# Altium integrated library Atmel Microcontroller 8-Bit tinyAVR.IntLib: 200 symbols (part 1 of 7)
Pins are listed as number, name and electrical type; pins without a type are passive.

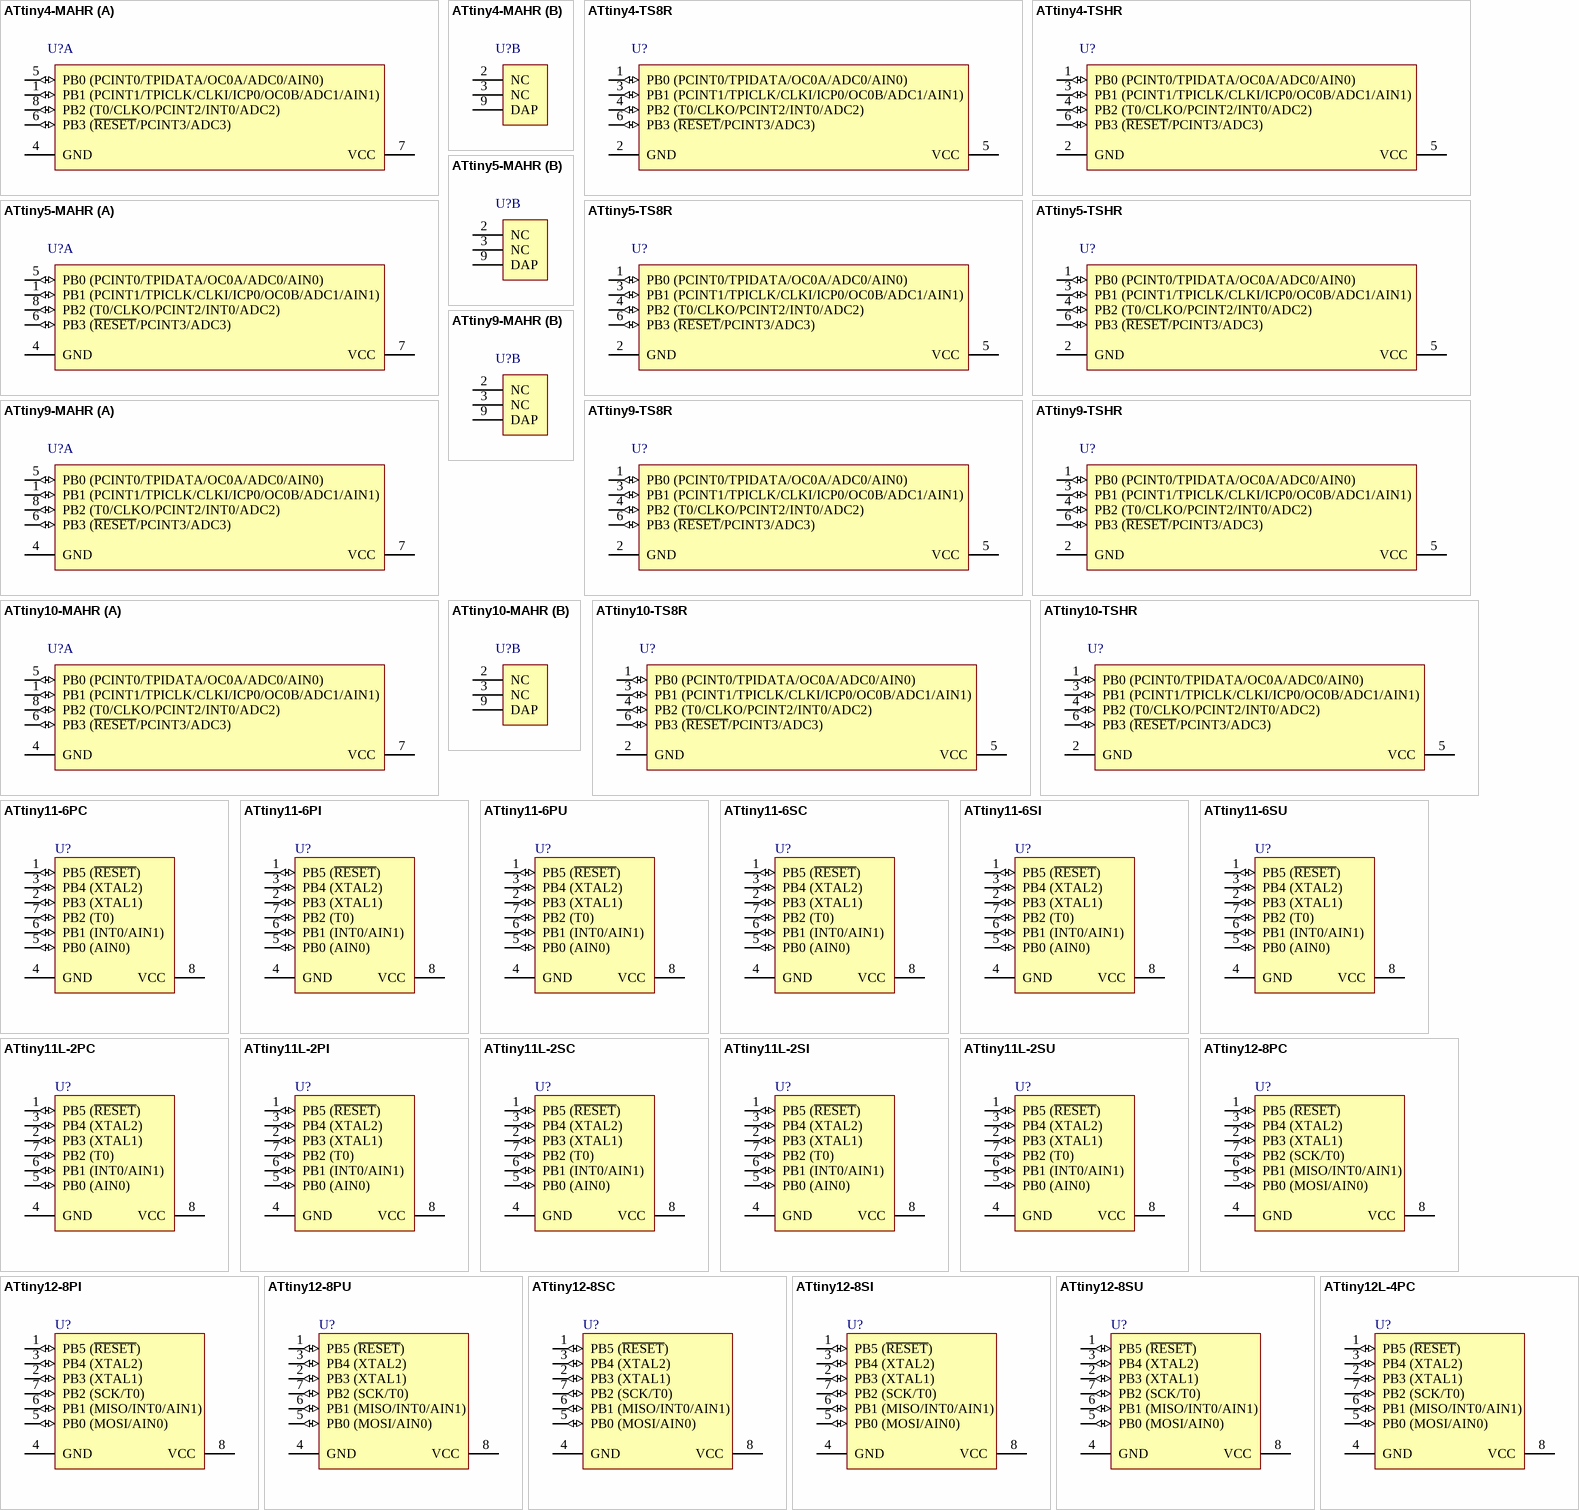
[diagram p0: symbols ATtiny4-MAHR to ATtiny12L-4PC]

## ATtiny4-MAHR
designator U?
8-bit AVR Microcontroller, 1.8-5.5V, 512 Bytes Flash, 32 Bytes SRAM, 8-pin UDFN, Industrial (-40°C to 85°C), Pb-Free, Reel; Published: 1-Apr-2010; DatasheetVersion: revD, Feb-2010; PackageVersion: revA, Dec-2009; PackageReference: 8MA4; Publisher: Altium Limited; PackageDescription: 8-Pad Plastic Dual Flat No Lead Package (UDFN/USON) Sawn,  2x2x0.6mm Body, 0.5mm Pitch, 0.9x1.5mm Exposed Pad; Supplier 1: Digi-Key; Supplier Part Number 1: ATTINY4-MAHR-ND; Supplier 2: Mouser; Supplier Part Number 2: 556-ATTINY4-MAHR; Code_JEDEC: MO-236/MO-252; ComponentLink1Description: Manufacturer Link; ComponentLink1URL: http://www.atmel.com/products/avr/default.asp?; ComponentLink2Description: ATtiny4/5/9/10 Datasheet; ComponentLink2URL: http://www.atmel.com/dyn/resources/prod_documents/doc8127.pdf; ComponentLink3Description: ATtiny4/5/9/10 Summary; ComponentLink3URL: http://www.atmel.com/dyn/resources/prod_documents/8127S.pdf; ComponentLink4Description: Atmel.com Home; ComponentLink4URL: http://www.atmel.com
footprint 8MA4 (SON, 8-Leads, Body 2x2mm, Pitch 0.5mm)
part A pins: 1 PB1 (PCINT1/TPICLK/CLKI/ICP0/OC0B/ADC1/AIN1) (io), 4 GND (power), 5 PB0 (PCINT0/TPIDATA/OC0A/ADC0/AIN0) (io), 6 PB3 (~{RESET}/PCINT3/ADC3) (io), 7 VCC (power), 8 PB2 (T0/CLKO/PCINT2/INT0/ADC2) (io)
part B pins: 2 NC, 3 NC, 9 DAP (power)

## ATtiny4-TS8R
designator U?
8-bit AVR Microcontroller, 1.8-5.5V, 512 Bytes Flash, 32 Bytes SRAM, 6-pin SOT-23, Industrial (-40°C to 125°C), Pb-Free, Reel; Published: 1-Apr-2010; DatasheetVersion: revD, Feb-2010; PackageVersion: revA, Jun-2008; PackageReference: 6ST1; Publisher: Altium Limited; PackageDescription: 6-Lead, 2.90 x 1.60 mm Plastic Small Outline Package (SOT23); Supplier 1: Digi-Key; Supplier Part Number 1: ATTINY4-TS8R-ND; Supplier 2: Mouser; Supplier Part Number 2: 556-ATTINY4-TS8R; Code_JEDEC: MO-178-AB; Code_IPC: SOT26A-6; ComponentLink1Description: Manufacturer Link; ComponentLink1URL: http://www.atmel.com/products/avr/default.asp?; ComponentLink2Description: ATtiny4/5/9/10 Datasheet; ComponentLink2URL: http://www.atmel.com/dyn/resources/prod_documents/doc8127.pdf; ComponentLink3Description: ATtiny4/5/9/10 Summary; ComponentLink3URL: http://www.atmel.com/dyn/resources/prod_documents/8127S.pdf; ComponentLink4Description: ATtiny4/5/9/10 Appendix; ComponentLink4URL: http://www.atmel.com/dyn/resources/prod_documents/doc8127_125.pdf; ComponentLink5Description: Atmel.com Home; ComponentLink5URL: http://www.atmel.com
footprint 6ST1_N (SOT23, 6-Leads, Body 2.9x1.6mm, Pitch 0.95mm, Lead Span 2.7mm, IPC Medium Density)
footprint 6ST1_L (SOT23, 6-Leads, Body 2.9x1.6mm, Pitch 0.95mm, Lead Span 2.7mm, IPC High Density)
footprint 6ST1_M (SOT23, 6-Leads, Body 2.9x1.6mm, Pitch 0.95mm, Lead Span 2.7mm, IPC Low Density)
pins: 1 PB0 (PCINT0/TPIDATA/OC0A/ADC0/AIN0) (io), 2 GND (power), 3 PB1 (PCINT1/TPICLK/CLKI/ICP0/OC0B/ADC1/AIN1) (io), 4 PB2 (T0/CLKO/PCINT2/INT0/ADC2) (io), 5 VCC (power), 6 PB3 (~{RESET}/PCINT3/ADC3) (io)

## ATtiny4-TSHR
designator U?
8-bit AVR Microcontroller, 1.8-5.5V, 512 Bytes Flash, 32 Bytes SRAM, 6-pin SOT-23, Industrial (-40°C to 85°C), Pb-Free, Reel; Published: 1-Apr-2010; DatasheetVersion: revD, Feb-2010; PackageVersion: revA, Jun-2008; PackageReference: 6ST1; Publisher: Altium Limited; PackageDescription: 6-Lead, 2.90 x 1.60 mm Plastic Small Outline Package (SOT23); Supplier 1: Digi-Key; Supplier Part Number 1: ATTINY4-TSHR-ND; Supplier 2: Mouser; Supplier Part Number 2: 556-ATTINY4-TSHR; Code_JEDEC: MO-178-AB; Code_IPC: SOT26A-6; ComponentLink1Description: Manufacturer Link; ComponentLink1URL: http://www.atmel.com/products/avr/default.asp?; ComponentLink2Description: ATtiny4/5/9/10 Datasheet; ComponentLink2URL: http://www.atmel.com/dyn/resources/prod_documents/doc8127.pdf; ComponentLink3Description: ATtiny4/5/9/10 Summary; ComponentLink3URL: http://www.atmel.com/dyn/resources/prod_documents/8127S.pdf; ComponentLink4Description: ATtiny4/5/9/10 Appendix; ComponentLink4URL: http://www.atmel.com/dyn/resources/prod_documents/doc8127_125.pdf; ComponentLink5Description: Atmel.com Home; ComponentLink5URL: http://www.atmel.com
footprint 6ST1_N (SOT23, 6-Leads, Body 2.9x1.6mm, Pitch 0.95mm, Lead Span 2.7mm, IPC Medium Density)
footprint 6ST1_L (SOT23, 6-Leads, Body 2.9x1.6mm, Pitch 0.95mm, Lead Span 2.7mm, IPC High Density)
footprint 6ST1_M (SOT23, 6-Leads, Body 2.9x1.6mm, Pitch 0.95mm, Lead Span 2.7mm, IPC Low Density)
pins: 1 PB0 (PCINT0/TPIDATA/OC0A/ADC0/AIN0) (io), 2 GND (power), 3 PB1 (PCINT1/TPICLK/CLKI/ICP0/OC0B/ADC1/AIN1) (io), 4 PB2 (T0/CLKO/PCINT2/INT0/ADC2) (io), 5 VCC (power), 6 PB3 (~{RESET}/PCINT3/ADC3) (io)

## ATtiny5-MAHR
designator U?
8-bit AVR Microcontroller, 1.8-5.5V, 512 Bytes Flash, 32 Bytes SRAM, ADC8-pin UDFN, Industrial (-40°C to 85°C), Pb-Free, Reel; Published: 1-Apr-2010; DatasheetVersion: revD, Feb-2010; PackageVersion: revA, Dec-2009; PackageReference: 8MA4; Publisher: Altium Limited; PackageDescription: 8-Pad Plastic Dual Flat No Lead Package (UDFN/USON) Sawn,  2x2x0.6mm Body, 0.5mm Pitch, 0.9x1.5mm Exposed Pad; Supplier 1: Digi-Key; Supplier Part Number 1: ATTINY5-MAHR-ND; Supplier 2: Mouser; Supplier Part Number 2: 556-ATTINY5-MAHR; Code_JEDEC: MO-236/MO-252; ComponentLink1Description: Manufacturer Link; ComponentLink1URL: http://www.atmel.com/products/avr/default.asp?; ComponentLink2Description: ATtiny4/5/9/10 Datasheet; ComponentLink2URL: http://www.atmel.com/dyn/resources/prod_documents/doc8127.pdf; ComponentLink3Description: ATtiny4/5/9/10 Summary; ComponentLink3URL: http://www.atmel.com/dyn/resources/prod_documents/8127S.pdf; ComponentLink4Description: Atmel.com Home; ComponentLink4URL: http://www.atmel.com
footprint 8MA4 (SON, 8-Leads, Body 2x2mm, Pitch 0.5mm)
part A pins: 1 PB1 (PCINT1/TPICLK/CLKI/ICP0/OC0B/ADC1/AIN1) (io), 4 GND (power), 5 PB0 (PCINT0/TPIDATA/OC0A/ADC0/AIN0) (io), 6 PB3 (~{RESET}/PCINT3/ADC3) (io), 7 VCC (power), 8 PB2 (T0/CLKO/PCINT2/INT0/ADC2) (io)
part B pins: 2 NC, 3 NC, 9 DAP (power)

## ATtiny5-TS8R
designator U?
8-bit AVR Microcontroller, 1.8-5.5V, 512 Bytes Flash, 32 Bytes SRAM, ADC, 6-pin SOT-23, Industrial (-40°C to 125°C), Pb-Free, Reel; Published: 1-Apr-2010; DatasheetVersion: revD, Feb-2010; PackageVersion: revA, Jun-2008; PackageReference: 6ST1; Publisher: Altium Limited; PackageDescription: 6-Lead, 2.90 x 1.60 mm Plastic Small Outline Package (SOT23); Supplier 1: Digi-Key; Supplier Part Number 1: ATTINY5-TS8R-ND; Supplier 2: Mouser; Supplier Part Number 2: 556-ATTINY5-TS8R; Code_JEDEC: MO-178-AB; Code_IPC: SOT26A-6; ComponentLink1Description: Manufacturer Link; ComponentLink1URL: http://www.atmel.com/products/avr/default.asp?; ComponentLink2Description: ATtiny4/5/9/10 Datasheet; ComponentLink2URL: http://www.atmel.com/dyn/resources/prod_documents/doc8127.pdf; ComponentLink3Description: ATtiny4/5/9/10 Summary; ComponentLink3URL: http://www.atmel.com/dyn/resources/prod_documents/8127S.pdf; ComponentLink4Description: ATtiny4/5/9/10 Appendix; ComponentLink4URL: http://www.atmel.com/dyn/resources/prod_documents/doc8127_125.pdf; ComponentLink5Description: Atmel.com Home; ComponentLink5URL: http://www.atmel.com
footprint 6ST1_N (SOT23, 6-Leads, Body 2.9x1.6mm, Pitch 0.95mm, Lead Span 2.7mm, IPC Medium Density)
footprint 6ST1_L (SOT23, 6-Leads, Body 2.9x1.6mm, Pitch 0.95mm, Lead Span 2.7mm, IPC High Density)
footprint 6ST1_M (SOT23, 6-Leads, Body 2.9x1.6mm, Pitch 0.95mm, Lead Span 2.7mm, IPC Low Density)
pins: 1 PB0 (PCINT0/TPIDATA/OC0A/ADC0/AIN0) (io), 2 GND (power), 3 PB1 (PCINT1/TPICLK/CLKI/ICP0/OC0B/ADC1/AIN1) (io), 4 PB2 (T0/CLKO/PCINT2/INT0/ADC2) (io), 5 VCC (power), 6 PB3 (~{RESET}/PCINT3/ADC3) (io)

## ATtiny5-TSHR
designator U?
8-bit AVR Microcontroller, 1.8-5.5V, 512 Bytes Flash, 32 Bytes SRAM, ADC6-pin SOT-23, Industrial (-40°C to 85°C), Pb-Free, Reel; Published: 1-Apr-2010; DatasheetVersion: revD, Feb-2010; PackageVersion: revA, Jun-2008; PackageReference: 6ST1; Publisher: Altium Limited; PackageDescription: 6-Lead, 2.90 x 1.60 mm Plastic Small Outline Package (SOT23); Supplier 1: Digi-Key; Supplier Part Number 1: ATTINY5-TSHR-ND; Supplier 2: Mouser; Supplier Part Number 2: 556-ATTINY5-TSHR; Code_JEDEC: MO-178-AB; Code_IPC: SOT26A-6; ComponentLink1Description: Manufacturer Link; ComponentLink1URL: http://www.atmel.com/products/avr/default.asp?; ComponentLink2Description: ATtiny4/5/9/10 Datasheet; ComponentLink2URL: http://www.atmel.com/dyn/resources/prod_documents/doc8127.pdf; ComponentLink3Description: ATtiny4/5/9/10 Summary; ComponentLink3URL: http://www.atmel.com/dyn/resources/prod_documents/8127S.pdf; ComponentLink4Description: Atmel.com Home; ComponentLink4URL: http://www.atmel.com
footprint 6ST1_N (SOT23, 6-Leads, Body 2.9x1.6mm, Pitch 0.95mm, Lead Span 2.7mm, IPC Medium Density)
footprint 6ST1_L (SOT23, 6-Leads, Body 2.9x1.6mm, Pitch 0.95mm, Lead Span 2.7mm, IPC High Density)
footprint 6ST1_M (SOT23, 6-Leads, Body 2.9x1.6mm, Pitch 0.95mm, Lead Span 2.7mm, IPC Low Density)
pins: 1 PB0 (PCINT0/TPIDATA/OC0A/ADC0/AIN0) (io), 2 GND (power), 3 PB1 (PCINT1/TPICLK/CLKI/ICP0/OC0B/ADC1/AIN1) (io), 4 PB2 (T0/CLKO/PCINT2/INT0/ADC2) (io), 5 VCC (power), 6 PB3 (~{RESET}/PCINT3/ADC3) (io)

## ATtiny9-MAHR
designator U?
8-bit AVR Microcontroller, 1.8-5.5V, 1KB Flash, 32 Bytes SRAM, 8-pin UDFN, Industrial (-40°C to 85°C), Pb-Free, Reel; Published: 1-Apr-2010; DatasheetVersion: revD, Feb-2010; PackageVersion: revA, Dec-2009; PackageReference: 8MA4; Publisher: Altium Limited; PackageDescription: 8-Pad Plastic Dual Flat No Lead Package (UDFN/USON) Sawn,  2x2x0.6mm Body, 0.5mm Pitch, 0.9x1.5mm Exposed Pad; Supplier 1: Digi-Key; Supplier Part Number 1: ATTINY9-MAHR-ND; Supplier 2: Mouser; Supplier Part Number 2: 556-ATTINY9-MAHR; Code_JEDEC: MO-236/MO-252; ComponentLink1Description: Manufacturer Link; ComponentLink1URL: http://www.atmel.com/products/avr/default.asp?; ComponentLink2Description: ATtiny4/5/9/10 Datasheet; ComponentLink2URL: http://www.atmel.com/dyn/resources/prod_documents/doc8127.pdf; ComponentLink3Description: ATtiny4/5/9/10 Summary; ComponentLink3URL: http://www.atmel.com/dyn/resources/prod_documents/8127S.pdf; ComponentLink4Description: Atmel.com Home; ComponentLink4URL: http://www.atmel.com
footprint 8MA4 (SON, 8-Leads, Body 2x2mm, Pitch 0.5mm)
part A pins: 1 PB1 (PCINT1/TPICLK/CLKI/ICP0/OC0B/ADC1/AIN1) (io), 4 GND (power), 5 PB0 (PCINT0/TPIDATA/OC0A/ADC0/AIN0) (io), 6 PB3 (~{RESET}/PCINT3/ADC3) (io), 7 VCC (power), 8 PB2 (T0/CLKO/PCINT2/INT0/ADC2) (io)
part B pins: 2 NC, 3 NC, 9 DAP (power)

## ATtiny9-TS8R
designator U?
8-bit AVR Microcontroller, 1.8-5.5V, 1KB Flash, 32 Bytes SRAM, 6-pin SOT-23, Industrial (-40°C to 125°C), Pb-Free, Reel; Published: 1-Apr-2010; DatasheetVersion: revD, Feb-2010; PackageVersion: revA, Jun-2008; PackageReference: 6ST1; Publisher: Altium Limited; PackageDescription: 6-Lead, 2.90 x 1.60 mm Plastic Small Outline Package (SOT23); Supplier 1: Digi-Key; Supplier Part Number 1: ATTINY9-TS8R-ND; Supplier 2: Mouser; Supplier Part Number 2: 556-ATTINY9-TS8R; Code_JEDEC: MO-178-AB; Code_IPC: SOT26A-6; ComponentLink1Description: Manufacturer Link; ComponentLink1URL: http://www.atmel.com/products/avr/default.asp?; ComponentLink2Description: ATtiny4/5/9/10 Datasheet; ComponentLink2URL: http://www.atmel.com/dyn/resources/prod_documents/doc8127.pdf; ComponentLink3Description: ATtiny4/5/9/10 Summary; ComponentLink3URL: http://www.atmel.com/dyn/resources/prod_documents/8127S.pdf; ComponentLink4Description: ATtiny4/5/9/10 Appendix; ComponentLink4URL: http://www.atmel.com/dyn/resources/prod_documents/doc8127_125.pdf; ComponentLink5Description: Atmel.com Home; ComponentLink5URL: http://www.atmel.com
footprint 6ST1_N (SOT23, 6-Leads, Body 2.9x1.6mm, Pitch 0.95mm, Lead Span 2.7mm, IPC Medium Density)
footprint 6ST1_L (SOT23, 6-Leads, Body 2.9x1.6mm, Pitch 0.95mm, Lead Span 2.7mm, IPC High Density)
footprint 6ST1_M (SOT23, 6-Leads, Body 2.9x1.6mm, Pitch 0.95mm, Lead Span 2.7mm, IPC Low Density)
pins: 1 PB0 (PCINT0/TPIDATA/OC0A/ADC0/AIN0) (io), 2 GND (power), 3 PB1 (PCINT1/TPICLK/CLKI/ICP0/OC0B/ADC1/AIN1) (io), 4 PB2 (T0/CLKO/PCINT2/INT0/ADC2) (io), 5 VCC (power), 6 PB3 (~{RESET}/PCINT3/ADC3) (io)

## ATtiny9-TSHR
designator U?
8-bit AVR Microcontroller, 1.8-5.5V, 1KB Flash, 32 Bytes SRAM, 6-pin SOT-23, Industrial (-40°C to 85°C), Pb-Free, Reel; Published: 1-Apr-2010; DatasheetVersion: revD, Feb-2010; PackageVersion: revA, Jun-2008; PackageReference: 6ST1; Publisher: Altium Limited; PackageDescription: 6-Lead, 2.90 x 1.60 mm Plastic Small Outline Package (SOT23); Supplier 1: Digi-Key; Supplier Part Number 1: ATTINY9-TSHR-ND; Supplier 2: Mouser; Supplier Part Number 2: 556-ATTINY9-TSHR; Code_JEDEC: MO-178-AB; Code_IPC: SOT26A-6; ComponentLink1Description: Manufacturer Link; ComponentLink1URL: http://www.atmel.com/products/avr/default.asp?; ComponentLink2Description: ATtiny4/5/9/10 Datasheet; ComponentLink2URL: http://www.atmel.com/dyn/resources/prod_documents/doc8127.pdf; ComponentLink3Description: ATtiny4/5/9/10 Summary; ComponentLink3URL: http://www.atmel.com/dyn/resources/prod_documents/8127S.pdf; ComponentLink4Description: Atmel.com Home; ComponentLink4URL: http://www.atmel.com
footprint 6ST1_N (SOT23, 6-Leads, Body 2.9x1.6mm, Pitch 0.95mm, Lead Span 2.7mm, IPC Medium Density)
footprint 6ST1_L (SOT23, 6-Leads, Body 2.9x1.6mm, Pitch 0.95mm, Lead Span 2.7mm, IPC High Density)
footprint 6ST1_M (SOT23, 6-Leads, Body 2.9x1.6mm, Pitch 0.95mm, Lead Span 2.7mm, IPC Low Density)
pins: 1 PB0 (PCINT0/TPIDATA/OC0A/ADC0/AIN0) (io), 2 GND (power), 3 PB1 (PCINT1/TPICLK/CLKI/ICP0/OC0B/ADC1/AIN1) (io), 4 PB2 (T0/CLKO/PCINT2/INT0/ADC2) (io), 5 VCC (power), 6 PB3 (~{RESET}/PCINT3/ADC3) (io)

## ATtiny10-MAHR
designator U?
8-bit AVR Microcontroller, 1.8-5.5V, 1KB Flash, 32 Bytes SRAM, ADC, 8-pin UDFN, Industrial (-40°C to 85°C), Pb-Free, Reel; Published: 1-Apr-2010; DatasheetVersion: revD, Feb-2010; PackageVersion: revA, Dec-2009; PackageReference: 8MA4; Publisher: Altium Limited; PackageDescription: 8-Pad Plastic Dual Flat No Lead Package (UDFN/USON) Sawn,  2x2x0.6mm Body, 0.5mm Pitch, 0.9x1.5mm Exposed Pad; Supplier 1: Digi-Key; Supplier Part Number 1: ATTINY10-MAHR-ND; Supplier 2: Mouser; Supplier Part Number 2: 556-ATTINY10-MAHR; Code_JEDEC: MO-236/MO-252; ComponentLink1Description: Manufacturer Link; ComponentLink1URL: http://www.atmel.com/products/avr/default.asp?; ComponentLink2Description: ATtiny4/5/9/10 Datasheet; ComponentLink2URL: http://www.atmel.com/dyn/resources/prod_documents/doc8127.pdf; ComponentLink3Description: ATtiny4/5/9/10 Summary; ComponentLink3URL: http://www.atmel.com/dyn/resources/prod_documents/8127S.pdf; ComponentLink4Description: Atmel.com Home; ComponentLink4URL: http://www.atmel.com
footprint 8MA4 (SON, 8-Leads, Body 2x2mm, Pitch 0.5mm)
part A pins: 1 PB1 (PCINT1/TPICLK/CLKI/ICP0/OC0B/ADC1/AIN1) (io), 4 GND (power), 5 PB0 (PCINT0/TPIDATA/OC0A/ADC0/AIN0) (io), 6 PB3 (~{RESET}/PCINT3/ADC3) (io), 7 VCC (power), 8 PB2 (T0/CLKO/PCINT2/INT0/ADC2) (io)
part B pins: 2 NC, 3 NC, 9 DAP (power)

## ATtiny10-TS8R
designator U?
8-bit AVR Microcontroller, 1.8-5.5V, 1KB Flash, 32 Bytes SRAM, ADC, 6-pin SOT-23, Industrial (-40°C to 125°C), Pb-Free, Reel; Published: 1-Apr-2010; DatasheetVersion: revD, Feb-2010; PackageVersion: revA, Jun-2008; PackageReference: 6ST1; Publisher: Altium Limited; PackageDescription: 6-Lead, 2.90 x 1.60 mm Plastic Small Outline Package (SOT23); Supplier 1: Digi-Key; Supplier Part Number 1: ATTINY10-TS8R-ND; Supplier 2: Mouser; Supplier Part Number 2: 556-ATTINY10-TS8R; Code_JEDEC: MO-178-AB; Code_IPC: SOT26A-6; ComponentLink1Description: Manufacturer Link; ComponentLink1URL: http://www.atmel.com/products/avr/default.asp?; ComponentLink2Description: ATtiny4/5/9/10 Datasheet; ComponentLink2URL: http://www.atmel.com/dyn/resources/prod_documents/doc8127.pdf; ComponentLink3Description: ATtiny4/5/9/10 Summary; ComponentLink3URL: http://www.atmel.com/dyn/resources/prod_documents/8127S.pdf; ComponentLink4Description: Atmel.com Home; ComponentLink4URL: http://www.atmel.com
footprint 6ST1_N (SOT23, 6-Leads, Body 2.9x1.6mm, Pitch 0.95mm, Lead Span 2.7mm, IPC Medium Density)
footprint 6ST1_L (SOT23, 6-Leads, Body 2.9x1.6mm, Pitch 0.95mm, Lead Span 2.7mm, IPC High Density)
footprint 6ST1_M (SOT23, 6-Leads, Body 2.9x1.6mm, Pitch 0.95mm, Lead Span 2.7mm, IPC Low Density)
pins: 1 PB0 (PCINT0/TPIDATA/OC0A/ADC0/AIN0) (io), 2 GND (power), 3 PB1 (PCINT1/TPICLK/CLKI/ICP0/OC0B/ADC1/AIN1) (io), 4 PB2 (T0/CLKO/PCINT2/INT0/ADC2) (io), 5 VCC (power), 6 PB3 (~{RESET}/PCINT3/ADC3) (io)

## ATtiny10-TSHR
designator U?
8-bit AVR Microcontroller, 1.8-5.5V, 1KB Flash, 32 Bytes SRAM, ADC, 6-pin SOT-23, Industrial (-40°C to 85°C), Pb-Free, Reel; Published: 1-Apr-2010; DatasheetVersion: revD, Feb-2010; PackageVersion: revA, Jun-2008; PackageReference: 6ST1; Publisher: Altium Limited; PackageDescription: 6-Lead, 2.90 x 1.60 mm Plastic Small Outline Package (SOT23); Supplier 1: Digi-Key; Supplier Part Number 1: ATTINY10-TSHRTR-ND; Supplier 2: Digi-Key; Supplier Part Number 2: ATTINY10-TSHRCT-ND; Supplier 3: Digi-Key; Supplier Part Number 3: ATTINY10-TSHRDKR-ND; Supplier 4: Farnell; Supplier Part Number 4: 1748538; Supplier 5: Mouser; Supplier Part Number 5: 556-ATTINY10-TSHR; Code_JEDEC: MO-178-AB; Code_IPC: SOT26A-6; ComponentLink1Description: Manufacturer Link; ComponentLink1URL: http://www.atmel.com/products/avr/default.asp?; ComponentLink2Description: ATtiny4/5/9/10 Datasheet; ComponentLink2URL: http://www.atmel.com/dyn/resources/prod_documents/doc8127.pdf; ComponentLink3Description: ATtiny4/5/9/10 Summary; ComponentLink3URL: http://www.atmel.com/dyn/resources/prod_documents/8127S.pdf; ComponentLink4Description: Atmel.com Home; ComponentLink4URL: http://www.atmel.com
footprint 6ST1_N (SOT23, 6-Leads, Body 2.9x1.6mm, Pitch 0.95mm, Lead Span 2.7mm, IPC Medium Density)
footprint 6ST1_L (SOT23, 6-Leads, Body 2.9x1.6mm, Pitch 0.95mm, Lead Span 2.7mm, IPC High Density)
footprint 6ST1_M (SOT23, 6-Leads, Body 2.9x1.6mm, Pitch 0.95mm, Lead Span 2.7mm, IPC Low Density)
pins: 1 PB0 (PCINT0/TPIDATA/OC0A/ADC0/AIN0) (io), 2 GND (power), 3 PB1 (PCINT1/TPICLK/CLKI/ICP0/OC0B/ADC1/AIN1) (io), 4 PB2 (T0/CLKO/PCINT2/INT0/ADC2) (io), 5 VCC (power), 6 PB3 (~{RESET}/PCINT3/ADC3) (io)

## ATtiny11-6PC
designator U?
8-bit AVR Microcontroller, 4.0-5.5V, 1KB Flash, 8-pin PDIP, Commercial Grade (0°C to 70°C); Published: 17-Sep-2003; DatasheetVersion: revF, Jun-2007; PackageVersion: revB, Jan-2002; PackageReference: 8P3; Publisher: Altium Limited; PackageDescription: 8-Lead, 0.300" Wide Body, Plastic Dual In-Line Package (PDIP); Supplier 1: Digi-Key; Supplier Part Number 1: ATTINY11-6PC-ND; Supplier 2: Mouser; Supplier Part Number 2: 556-ATTINY116PC; Code_JEDEC: MS-001-BA; ComponentLink1Description: Manufacturer Link; ComponentLink1URL: http://www.atmel.com/products/avr/default.asp?; ComponentLink2Description: ATtiny11/12 Datasheet; ComponentLink2URL: http://www.atmel.com/dyn/resources/prod_documents/doc1006.pdf; ComponentLink3Description: ATtiny11/12 Summary; ComponentLink3URL: http://www.atmel.com/dyn/resources/prod_documents/1006S.pdf; ComponentLink4Description: Atmel.com Home; ComponentLink4URL: http://www.atmel.com
footprint 8P3 (DIP, 8-Leads, Row Spacing 7.62mm, Pitch 2.54mm, Body 9.59x6.61mm)
pins: 1 PB5 (~{RESET}) (io), 2 PB3 (XTAL1) (io), 3 PB4 (XTAL2) (io), 4 GND (power), 5 PB0 (AIN0) (io), 6 PB1 (INT0/AIN1) (io), 7 PB2 (T0) (io), 8 VCC (power)

## ATtiny11-6PI
designator U?
8-bit AVR Microcontroller, 4.0-5.5V, 1KB Flash, 8-pin PDIP, Industrial Grade (-40°C to 85°C); Published: 17-Sep-2003; DatasheetVersion: revF, Jun-2007; PackageVersion: revB, Jan-2002; PackageReference: 8P3; Publisher: Altium Limited; PackageDescription: 8-Lead, 0.300" Wide Body, Plastic Dual In-Line Package (PDIP); Supplier 1: Digi-Key; Supplier Part Number 1: ATTINY11-6PI-ND; Supplier 2: Mouser; Supplier Part Number 2: 556-ATTINY11-6PI; Code_JEDEC: MS-001-BA; ComponentLink1Description: Manufacturer Link; ComponentLink1URL: http://www.atmel.com/products/avr/default.asp?; ComponentLink2Description: ATtiny11/12 Datasheet; ComponentLink2URL: http://www.atmel.com/dyn/resources/prod_documents/doc1006.pdf; ComponentLink3Description: ATtiny11/12 Summary; ComponentLink3URL: http://www.atmel.com/dyn/resources/prod_documents/1006S.pdf; ComponentLink4Description: Atmel.com Home; ComponentLink4URL: http://www.atmel.com
footprint 8P3 (DIP, 8-Leads, Row Spacing 7.62mm, Pitch 2.54mm, Body 9.59x6.61mm)
pins: 1 PB5 (~{RESET}) (io), 2 PB3 (XTAL1) (io), 3 PB4 (XTAL2) (io), 4 GND (power), 5 PB0 (AIN0) (io), 6 PB1 (INT0/AIN1) (io), 7 PB2 (T0) (io), 8 VCC (power)

## ATtiny11-6PU
designator U?
8-bit AVR Microcontroller, 4.0-5.5V, 1KB Flash, 8-pin PDIP, Industrial Grade (-40°C to 85°C), Pb-Free; Published: 1-Apr-2010; DatasheetVersion: revF, Jun-2007; PackageVersion: revB, Jan-2002; PackageReference: 8P3; Publisher: Altium Limited; PackageDescription: 8-Lead, 0.300" Wide Body, Plastic Dual In-Line Package (PDIP); Supplier 1: Digi-Key; Supplier Part Number 1: ATTINY11-6PU-ND; Supplier 2: Mouser; Supplier Part Number 2: 556-ATTINY11-6PU; Code_JEDEC: MS-001-BA; ComponentLink1Description: Manufacturer Link; ComponentLink1URL: http://www.atmel.com/products/avr/default.asp?; ComponentLink2Description: ATtiny11/12 Datasheet; ComponentLink2URL: http://www.atmel.com/dyn/resources/prod_documents/doc1006.pdf; ComponentLink3Description: ATtiny11/12 Summary; ComponentLink3URL: http://www.atmel.com/dyn/resources/prod_documents/1006S.pdf; ComponentLink4Description: Atmel.com Home; ComponentLink4URL: http://www.atmel.com
footprint 8P3 (DIP, 8-Leads, Row Spacing 7.62mm, Pitch 2.54mm, Body 9.59x6.61mm)
pins: 1 PB5 (~{RESET}) (io), 2 PB3 (XTAL1) (io), 3 PB4 (XTAL2) (io), 4 GND (power), 5 PB0 (AIN0) (io), 6 PB1 (INT0/AIN1) (io), 7 PB2 (T0) (io), 8 VCC (power)

## ATtiny11-6SC
designator U?
8-bit AVR Microcontroller, 4.0-5.5V, 1KB Flash, 8-pin SOIC, Commercial Grade (0°C to 70°C); Published: 17-Sep-2003; DatasheetVersion: revF, Jun-2007; PackageVersion: revF, Apr-2008; PackageReference: 8S2; Publisher: Altium Limited; PackageDescription: 8-Lead, 0.208" Body, Plastic Small Outline Package (EIAJ); Supplier 1: Digi-Key; Supplier Part Number 1: ATTINY11-6SC-ND; Supplier 2: Mouser; Supplier Part Number 2: 556-ATTINY11-6SC; ComponentLink1Description: Manufacturer Link; ComponentLink1URL: http://www.atmel.com/products/avr/default.asp?; ComponentLink2Description: ATtiny11/12 Datasheet; ComponentLink2URL: http://www.atmel.com/dyn/resources/prod_documents/doc1006.pdf; ComponentLink3Description: ATtiny11/12 Summary; ComponentLink3URL: http://www.atmel.com/dyn/resources/prod_documents/1006S.pdf; ComponentLink4Description: Atmel.com Home; ComponentLink4URL: http://www.atmel.com
footprint 8S2_N (SOP, 8-Leads, Body 5.3x5.3mm, Pitch 1.27mm, IPC Medium Density)
footprint 8S2_L (SOP, 8-Leads, Body 5.3x5.3mm, Pitch 1.27mm, IPC High Density)
footprint 8S2_M (SOP, 8-Leads, Body 5.3x5.3mm, Pitch 1.27mm, IPC Low Density)
pins: 1 PB5 (~{RESET}) (io), 2 PB3 (XTAL1) (io), 3 PB4 (XTAL2) (io), 4 GND (power), 5 PB0 (AIN0) (io), 6 PB1 (INT0/AIN1) (io), 7 PB2 (T0) (io), 8 VCC (power)

## ATtiny11-6SI
designator U?
8-bit AVR Microcontroller, 4.0-5.5V, 1KB Flash, 8-pin SOIC, Industrial Grade (-40°C to 85°C); Published: 17-Sep-2003; DatasheetVersion: revF, Jun-2007; PackageVersion: revF, Apr-2008; PackageReference: 8S2; Publisher: Altium Limited; PackageDescription: 8-Lead, 0.208" Body, Plastic Small Outline Package (EIAJ); Supplier 1: Digi-Key; Supplier Part Number 1: ATTINY11-6SI-ND; Supplier 2: Farnell; Supplier Part Number 2: 3617970; Supplier 3: Mouser; Supplier Part Number 3: 556-ATTINY116SI; ComponentLink1Description: Manufacturer Link; ComponentLink1URL: http://www.atmel.com/products/avr/default.asp?; ComponentLink2Description: ATtiny11/12 Datasheet; ComponentLink2URL: http://www.atmel.com/dyn/resources/prod_documents/doc1006.pdf; ComponentLink3Description: ATtiny11/12 Summary; ComponentLink3URL: http://www.atmel.com/dyn/resources/prod_documents/1006S.pdf; ComponentLink4Description: Atmel.com Home; ComponentLink4URL: http://www.atmel.com
footprint 8S2_N (SOP, 8-Leads, Body 5.3x5.3mm, Pitch 1.27mm, IPC Medium Density)
footprint 8S2_L (SOP, 8-Leads, Body 5.3x5.3mm, Pitch 1.27mm, IPC High Density)
footprint 8S2_M (SOP, 8-Leads, Body 5.3x5.3mm, Pitch 1.27mm, IPC Low Density)
pins: 1 PB5 (~{RESET}) (io), 2 PB3 (XTAL1) (io), 3 PB4 (XTAL2) (io), 4 GND (power), 5 PB0 (AIN0) (io), 6 PB1 (INT0/AIN1) (io), 7 PB2 (T0) (io), 8 VCC (power)

## ATtiny11-6SU
designator U?
8-bit AVR Microcontroller, 4.0-5.5V, 1KB Flash, 8-pin SOIC, Industrial Grade (-40°C to 85°C), Pb-Free; Published: 1-Apr-2010; DatasheetVersion: revF, Jun-2007; PackageVersion: revF, Apr-2008; PackageReference: 8S2; Publisher: Altium Limited; PackageDescription: 8-Lead, 0.208" Body, Plastic Small Outline Package (EIAJ); Supplier 1: Digi-Key; Supplier Part Number 1: ATTINY11-6SU-ND; Supplier 2: Mouser; Supplier Part Number 2: 556-ATTINY11-6SU; ComponentLink1Description: Manufacturer Link; ComponentLink1URL: http://www.atmel.com/products/avr/default.asp?; ComponentLink2Description: ATtiny11/12 Datasheet; ComponentLink2URL: http://www.atmel.com/dyn/resources/prod_documents/doc1006.pdf; ComponentLink3Description: ATtiny11/12 Summary; ComponentLink3URL: http://www.atmel.com/dyn/resources/prod_documents/1006S.pdf; ComponentLink4Description: Atmel.com Home; ComponentLink4URL: http://www.atmel.com
footprint 8S2_N (SOP, 8-Leads, Body 5.3x5.3mm, Pitch 1.27mm, IPC Medium Density)
footprint 8S2_L (SOP, 8-Leads, Body 5.3x5.3mm, Pitch 1.27mm, IPC High Density)
footprint 8S2_M (SOP, 8-Leads, Body 5.3x5.3mm, Pitch 1.27mm, IPC Low Density)
pins: 1 PB5 (~{RESET}) (io), 2 PB3 (XTAL1) (io), 3 PB4 (XTAL2) (io), 4 GND (power), 5 PB0 (AIN0) (io), 6 PB1 (INT0/AIN1) (io), 7 PB2 (T0) (io), 8 VCC (power)

## ATtiny11L-2PC
designator U?
8-bit AVR Microcontroller, 2.7-5.5V, 1KB Flash, 8-pin PDIP, Commercial Grade (0°C to 70°C); Published: 17-Sep-2003; DatasheetVersion: revF, Jun-2007; PackageVersion: revB, Jan-2002; PackageReference: 8P3; Publisher: Altium Limited; PackageDescription: 8-Lead, 0.300" Wide Body, Plastic Dual In-Line Package (PDIP); Supplier 1: Digi-Key; Supplier Part Number 1: ATTINY11L-2PC-ND; Supplier 2: Mouser; Supplier Part Number 2: 556-ATTINY11L2PC; Code_JEDEC: MS-001-BA; ComponentLink1Description: Manufacturer Link; ComponentLink1URL: http://www.atmel.com/products/avr/default.asp?; ComponentLink2Description: ATtiny11/12 Datasheet; ComponentLink2URL: http://www.atmel.com/dyn/resources/prod_documents/doc1006.pdf; ComponentLink3Description: ATtiny11/12 Summary; ComponentLink3URL: http://www.atmel.com/dyn/resources/prod_documents/1006S.pdf; ComponentLink4Description: Atmel.com Home; ComponentLink4URL: http://www.atmel.com
footprint 8P3 (DIP, 8-Leads, Row Spacing 7.62mm, Pitch 2.54mm, Body 9.59x6.61mm)
pins: 1 PB5 (~{RESET}) (io), 2 PB3 (XTAL1) (io), 3 PB4 (XTAL2) (io), 4 GND (power), 5 PB0 (AIN0) (io), 6 PB1 (INT0/AIN1) (io), 7 PB2 (T0) (io), 8 VCC (power)

## ATtiny11L-2PI
designator U?
8-bit AVR Microcontroller, 2.7-5.5V, 1KB Flash, 8-pin PDIP, Industrial Grade (-40°C to 85°C); Published: 17-Sep-2003; DatasheetVersion: revF, Jun-2007; PackageVersion: revB, Jan-2002; PackageReference: 8P3; Publisher: Altium Limited; PackageDescription: 8-Lead, 0.300" Wide Body, Plastic Dual In-Line Package (PDIP); Supplier 1: Digi-Key; Supplier Part Number 1: ATTINY11L-2PI-ND; Supplier 2: Mouser; Supplier Part Number 2: 556-ATTINY11L2PI; Code_JEDEC: MS-001-BA; ComponentLink1Description: Manufacturer Link; ComponentLink1URL: http://www.atmel.com/products/avr/default.asp?; ComponentLink2Description: ATtiny11/12 Datasheet; ComponentLink2URL: http://www.atmel.com/dyn/resources/prod_documents/doc1006.pdf; ComponentLink3Description: ATtiny11/12 Summary; ComponentLink3URL: http://www.atmel.com/dyn/resources/prod_documents/1006S.pdf; ComponentLink4Description: Atmel.com Home; ComponentLink4URL: http://www.atmel.com
footprint 8P3 (DIP, 8-Leads, Row Spacing 7.62mm, Pitch 2.54mm, Body 9.59x6.61mm)
pins: 1 PB5 (~{RESET}) (io), 2 PB3 (XTAL1) (io), 3 PB4 (XTAL2) (io), 4 GND (power), 5 PB0 (AIN0) (io), 6 PB1 (INT0/AIN1) (io), 7 PB2 (T0) (io), 8 VCC (power)

## ATtiny11L-2SC
designator U?
8-bit AVR Microcontroller, 2.7-5.5V, 1KB Flash, 8-pin SOIC, Commercial Grade (0°C to 70°C); Published: 17-Sep-2003; DatasheetVersion: revF, Jun-2007; PackageVersion: revF, Apr-2008; PackageReference: 8S2; Publisher: Altium Limited; PackageDescription: 8-Lead, 0.208" Body, Plastic Small Outline Package (EIAJ); Supplier 1: Digi-Key; Supplier Part Number 1: ATTINY11L-2SC-ND; Supplier 2: Mouser; Supplier Part Number 2: 556-ATTINY11L-2SC; ComponentLink1Description: Manufacturer Link; ComponentLink1URL: http://www.atmel.com/products/avr/default.asp?; ComponentLink2Description: ATtiny11/12 Datasheet; ComponentLink2URL: http://www.atmel.com/dyn/resources/prod_documents/doc1006.pdf; ComponentLink3Description: ATtiny11/12 Summary; ComponentLink3URL: http://www.atmel.com/dyn/resources/prod_documents/1006S.pdf; ComponentLink4Description: Atmel.com Home; ComponentLink4URL: http://www.atmel.com
footprint 8S2_N (SOP, 8-Leads, Body 5.3x5.3mm, Pitch 1.27mm, IPC Medium Density)
footprint 8S2_L (SOP, 8-Leads, Body 5.3x5.3mm, Pitch 1.27mm, IPC High Density)
footprint 8S2_M (SOP, 8-Leads, Body 5.3x5.3mm, Pitch 1.27mm, IPC Low Density)
pins: 1 PB5 (~{RESET}) (io), 2 PB3 (XTAL1) (io), 3 PB4 (XTAL2) (io), 4 GND (power), 5 PB0 (AIN0) (io), 6 PB1 (INT0/AIN1) (io), 7 PB2 (T0) (io), 8 VCC (power)

## ATtiny11L-2SI
designator U?
8-bit AVR Microcontroller, 2.7-5.5V, 1KB Flash, 8-pin SOIC, Industrial Grade (-40°C to 85°C); Published: 17-Sep-2003; DatasheetVersion: revF, Jun-2007; PackageVersion: revF, Apr-2008; PackageReference: 8S2; Publisher: Altium Limited; PackageDescription: 8-Lead, 0.208" Body, Plastic Small Outline Package (EIAJ); Supplier 1: Digi-Key; Supplier Part Number 1: ATTINY11L-2SI-ND; Supplier 2: Mouser; Supplier Part Number 2: 556-ATTINY11L2SI; ComponentLink1Description: Manufacturer Link; ComponentLink1URL: http://www.atmel.com/products/avr/default.asp?; ComponentLink2Description: ATtiny11/12 Datasheet; ComponentLink2URL: http://www.atmel.com/dyn/resources/prod_documents/doc1006.pdf; ComponentLink3Description: ATtiny11/12 Summary; ComponentLink3URL: http://www.atmel.com/dyn/resources/prod_documents/1006S.pdf; ComponentLink4Description: Atmel.com Home; ComponentLink4URL: http://www.atmel.com
footprint 8S2_N (SOP, 8-Leads, Body 5.3x5.3mm, Pitch 1.27mm, IPC Medium Density)
footprint 8S2_L (SOP, 8-Leads, Body 5.3x5.3mm, Pitch 1.27mm, IPC High Density)
footprint 8S2_M (SOP, 8-Leads, Body 5.3x5.3mm, Pitch 1.27mm, IPC Low Density)
pins: 1 PB5 (~{RESET}) (io), 2 PB3 (XTAL1) (io), 3 PB4 (XTAL2) (io), 4 GND (power), 5 PB0 (AIN0) (io), 6 PB1 (INT0/AIN1) (io), 7 PB2 (T0) (io), 8 VCC (power)

## ATtiny11L-2SU
designator U?
8-bit AVR Microcontroller, 2.7-5.5V, 1KB Flash, 8-pin SOIC, Industrial Grade (-40°C to 85°C), Pb-Free; Published: 1-Apr-2010; DatasheetVersion: revF, Jun-2007; PackageVersion: revF, Apr-2008; PackageReference: 8S2; Publisher: Altium Limited; PackageDescription: 8-Lead, 0.208" Body, Plastic Small Outline Package (EIAJ); Supplier 1: Digi-Key; Supplier Part Number 1: ATTINY11L-2SU-ND; Supplier 2: Mouser; Supplier Part Number 2: 556-ATTINY11L2SU; ComponentLink1Description: Manufacturer Link; ComponentLink1URL: http://www.atmel.com/products/avr/default.asp?; ComponentLink2Description: ATtiny11/12 Datasheet; ComponentLink2URL: http://www.atmel.com/dyn/resources/prod_documents/doc1006.pdf; ComponentLink3Description: ATtiny11/12 Summary; ComponentLink3URL: http://www.atmel.com/dyn/resources/prod_documents/1006S.pdf; ComponentLink4Description: Atmel.com Home; ComponentLink4URL: http://www.atmel.com
footprint 8S2_N (SOP, 8-Leads, Body 5.3x5.3mm, Pitch 1.27mm, IPC Medium Density)
footprint 8S2_L (SOP, 8-Leads, Body 5.3x5.3mm, Pitch 1.27mm, IPC High Density)
footprint 8S2_M (SOP, 8-Leads, Body 5.3x5.3mm, Pitch 1.27mm, IPC Low Density)
pins: 1 PB5 (~{RESET}) (io), 2 PB3 (XTAL1) (io), 3 PB4 (XTAL2) (io), 4 GND (power), 5 PB0 (AIN0) (io), 6 PB1 (INT0/AIN1) (io), 7 PB2 (T0) (io), 8 VCC (power)

## ATtiny12-8PC
designator U?
8-bit AVR Microcontroller, 4.0-5.5V, 1KB Flash, 64 Bytes EEPROM, 8-pin PDIP, Commercial Grade (0°C to 70°C); Published: 17-Sep-2003; DatasheetVersion: revF, Jun-2007; PackageVersion: revB, Jan-2002; PackageReference: 8P3; Publisher: Altium Limited; PackageDescription: 8-Lead, 0.300" Wide Body, Plastic Dual In-Line Package (PDIP); Supplier 1: Digi-Key; Supplier Part Number 1: ATTINY12-8PC-ND; Supplier 2: Mouser; Supplier Part Number 2: 556-ATTINY12-8PC; Code_JEDEC: MS-001-BA; ComponentLink1Description: Manufacturer Link; ComponentLink1URL: http://www.atmel.com/products/avr/default.asp?; ComponentLink2Description: ATtiny11/12 Datasheet; ComponentLink2URL: http://www.atmel.com/dyn/resources/prod_documents/doc1006.pdf; ComponentLink3Description: ATtiny11/12 Summary; ComponentLink3URL: http://www.atmel.com/dyn/resources/prod_documents/1006S.pdf; ComponentLink4Description: Atmel.com Home; ComponentLink4URL: http://www.atmel.com
footprint 8P3 (DIP, 8-Leads, Row Spacing 7.62mm, Pitch 2.54mm, Body 9.59x6.61mm)
pins: 1 PB5 (~{RESET}) (io), 2 PB3 (XTAL1) (io), 3 PB4 (XTAL2) (io), 4 GND (power), 5 PB0 (MOSI/AIN0) (io), 6 PB1 (MISO/INT0/AIN1) (io), 7 PB2 (SCK/T0) (io), 8 VCC (power)

## ATtiny12-8PI
designator U?
8-bit AVR Microcontroller, 4.0-5.5V, 1KB Flash, 64 Bytes EEPROM, 8-pin PDIP, Industrial Grade (-40°C to 85°C); Published: 17-Sep-2003; DatasheetVersion: revF, Jun-2007; PackageVersion: revB, Jan-2002; PackageReference: 8P3; Publisher: Altium Limited; PackageDescription: 8-Lead, 0.300" Wide Body, Plastic Dual In-Line Package (PDIP); Supplier 1: Digi-Key; Supplier Part Number 1: ATTINY12-8PI-ND; Supplier 2: Farnell; Supplier Part Number 2: 3618006; Supplier 3: Mouser; Supplier Part Number 3: 556-ATTINY12-8PI; Code_JEDEC: MS-001-BA; ComponentLink1Description: Manufacturer Link; ComponentLink1URL: http://www.atmel.com/products/avr/default.asp?; ComponentLink2Description: ATtiny11/12 Datasheet; ComponentLink2URL: http://www.atmel.com/dyn/resources/prod_documents/doc1006.pdf; ComponentLink3Description: ATtiny11/12 Summary; ComponentLink3URL: http://www.atmel.com/dyn/resources/prod_documents/1006S.pdf; ComponentLink4Description: Atmel.com Home; ComponentLink4URL: http://www.atmel.com
footprint 8P3 (DIP, 8-Leads, Row Spacing 7.62mm, Pitch 2.54mm, Body 9.59x6.61mm)
pins: 1 PB5 (~{RESET}) (io), 2 PB3 (XTAL1) (io), 3 PB4 (XTAL2) (io), 4 GND (power), 5 PB0 (MOSI/AIN0) (io), 6 PB1 (MISO/INT0/AIN1) (io), 7 PB2 (SCK/T0) (io), 8 VCC (power)

## ATtiny12-8PU
designator U?
8-bit AVR Microcontroller, 4.0-5.5V, 1KB Flash, 64 Bytes EEPROM, 8-pin PDIP, Industrial Grade (-40°C to 85°C), Pb-Free; Published: 1-Apr-2010; DatasheetVersion: revF, Jun-2007; PackageVersion: revB, Jan-2002; PackageReference: 8P3; Publisher: Altium Limited; PackageDescription: 8-Lead, 0.300" Wide Body, Plastic Dual In-Line Package (PDIP); Supplier 1: Mouser; Supplier Part Number 1: 556-ATTINY12-8PU; Code_JEDEC: MS-001-BA; ComponentLink1Description: Manufacturer Link; ComponentLink1URL: http://www.atmel.com/products/avr/default.asp?; ComponentLink2Description: ATtiny11/12 Datasheet; ComponentLink2URL: http://www.atmel.com/dyn/resources/prod_documents/doc1006.pdf; ComponentLink3Description: ATtiny11/12 Summary; ComponentLink3URL: http://www.atmel.com/dyn/resources/prod_documents/1006S.pdf; ComponentLink4Description: Atmel.com Home; ComponentLink4URL: http://www.atmel.com
footprint 8P3 (DIP, 8-Leads, Row Spacing 7.62mm, Pitch 2.54mm, Body 9.59x6.61mm)
pins: 1 PB5 (~{RESET}) (io), 2 PB3 (XTAL1) (io), 3 PB4 (XTAL2) (io), 4 GND (power), 5 PB0 (MOSI/AIN0) (io), 6 PB1 (MISO/INT0/AIN1) (io), 7 PB2 (SCK/T0) (io), 8 VCC (power)

## ATtiny12-8SC
designator U?
8-bit AVR Microcontroller, 4.0-5.5V, 1KB Flash, 64 Bytes EEPROM, 8-pin SOIC, Commercial Grade (0°C to 70°C); Published: 17-Sep-2003; DatasheetVersion: revF, Jun-2007; PackageVersion: revF, Apr-2008; PackageReference: 8S2; Publisher: Altium Limited; PackageDescription: 8-Lead, 0.208" Body, Plastic Small Outline Package (EIAJ); Supplier 1: Digi-Key; Supplier Part Number 1: ATTINY12-8SC-ND; Supplier 2: Mouser; Supplier Part Number 2: 556-ATTINY12-8SC; ComponentLink1Description: Manufacturer Link; ComponentLink1URL: http://www.atmel.com/products/avr/default.asp?; ComponentLink2Description: ATtiny11/12 Datasheet; ComponentLink2URL: http://www.atmel.com/dyn/resources/prod_documents/doc1006.pdf; ComponentLink3Description: ATtiny11/12 Summary; ComponentLink3URL: http://www.atmel.com/dyn/resources/prod_documents/1006S.pdf; ComponentLink4Description: Atmel.com Home; ComponentLink4URL: http://www.atmel.com
footprint 8S2_N (SOP, 8-Leads, Body 5.3x5.3mm, Pitch 1.27mm, IPC Medium Density)
footprint 8S2_L (SOP, 8-Leads, Body 5.3x5.3mm, Pitch 1.27mm, IPC High Density)
footprint 8S2_M (SOP, 8-Leads, Body 5.3x5.3mm, Pitch 1.27mm, IPC Low Density)
pins: 1 PB5 (~{RESET}) (io), 2 PB3 (XTAL1) (io), 3 PB4 (XTAL2) (io), 4 GND (power), 5 PB0 (MOSI/AIN0) (io), 6 PB1 (MISO/INT0/AIN1) (io), 7 PB2 (SCK/T0) (io), 8 VCC (power)

## ATtiny12-8SI
designator U?
8-bit AVR Microcontroller, 4.0-5.5V, 1KB Flash, 64 Bytes EEPROM, 8-pin SOIC, Industrial Grade (-40°C to 85°C); Published: 17-Sep-2003; DatasheetVersion: revF, Jun-2007; PackageVersion: revF, Apr-2008; PackageReference: 8S2; Publisher: Altium Limited; PackageDescription: 8-Lead, 0.208" Body, Plastic Small Outline Package (EIAJ); Supplier 1: Digi-Key; Supplier Part Number 1: ATTINY12-8SI-ND; Supplier 2: Mouser; Supplier Part Number 2: 556-ATTINY12-8SI; Supplier 3: Farnell; Supplier Part Number 3: 3617993; ComponentLink1Description: Manufacturer Link; ComponentLink1URL: http://www.atmel.com/products/avr/default.asp?; ComponentLink2Description: ATtiny11/12 Datasheet; ComponentLink2URL: http://www.atmel.com/dyn/resources/prod_documents/doc1006.pdf; ComponentLink3Description: ATtiny11/12 Summary; ComponentLink3URL: http://www.atmel.com/dyn/resources/prod_documents/1006S.pdf; ComponentLink4Description: Atmel.com Home; ComponentLink4URL: http://www.atmel.com
footprint 8S2_N (SOP, 8-Leads, Body 5.3x5.3mm, Pitch 1.27mm, IPC Medium Density)
footprint 8S2_L (SOP, 8-Leads, Body 5.3x5.3mm, Pitch 1.27mm, IPC High Density)
footprint 8S2_M (SOP, 8-Leads, Body 5.3x5.3mm, Pitch 1.27mm, IPC Low Density)
pins: 1 PB5 (~{RESET}) (io), 2 PB3 (XTAL1) (io), 3 PB4 (XTAL2) (io), 4 GND (power), 5 PB0 (MOSI/AIN0) (io), 6 PB1 (MISO/INT0/AIN1) (io), 7 PB2 (SCK/T0) (io), 8 VCC (power)

## ATtiny12-8SU
designator U?
8-bit AVR Microcontroller, 4.0-5.5V, 1KB Flash, 64 Bytes EEPROM, 8-pin SOIC, Industrial Grade (-40°C to 85°C), Pb-Free; Published: 1-Apr-2010; DatasheetVersion: revF, Jun-2007; PackageVersion: revF, Apr-2008; PackageReference: 8S2; Publisher: Altium Limited; PackageDescription: 8-Lead, 0.208" Body, Plastic Small Outline Package (EIAJ); Supplier 1: Mouser; Supplier Part Number 1: 556-ATTINY12-8SU; ComponentLink1Description: Manufacturer Link; ComponentLink1URL: http://www.atmel.com/products/avr/default.asp?; ComponentLink2Description: ATtiny11/12 Datasheet; ComponentLink2URL: http://www.atmel.com/dyn/resources/prod_documents/doc1006.pdf; ComponentLink3Description: ATtiny11/12 Summary; ComponentLink3URL: http://www.atmel.com/dyn/resources/prod_documents/1006S.pdf; ComponentLink4Description: Atmel.com Home; ComponentLink4URL: http://www.atmel.com
footprint 8S2_N (SOP, 8-Leads, Body 5.3x5.3mm, Pitch 1.27mm, IPC Medium Density)
footprint 8S2_L (SOP, 8-Leads, Body 5.3x5.3mm, Pitch 1.27mm, IPC High Density)
footprint 8S2_M (SOP, 8-Leads, Body 5.3x5.3mm, Pitch 1.27mm, IPC Low Density)
pins: 1 PB5 (~{RESET}) (io), 2 PB3 (XTAL1) (io), 3 PB4 (XTAL2) (io), 4 GND (power), 5 PB0 (MOSI/AIN0) (io), 6 PB1 (MISO/INT0/AIN1) (io), 7 PB2 (SCK/T0) (io), 8 VCC (power)

## ATtiny12L-4PC
designator U?
8-bit AVR Microcontroller, 2.7-5.5V, 1KB Flash, 64 Bytes EEPROM, 8-pin PDIP, Commercial Grade (0°C to 70°C); Published: 17-Sep-2003; DatasheetVersion: revF, Jun-2007; PackageVersion: revB, Jan-2002; PackageReference: 8P3; Publisher: Altium Limited; PackageDescription: 8-Lead, 0.300" Wide Body, Plastic Dual In-Line Package (PDIP); Supplier 1: Digi-Key; Supplier Part Number 1: ATTINY12L-4PC-ND; Supplier 2: Mouser; Supplier Part Number 2: 556-ATTINY12L-4PC; Code_JEDEC: MS-001-BA; ComponentLink1Description: Manufacturer Link; ComponentLink1URL: http://www.atmel.com/products/avr/default.asp?; ComponentLink2Description: ATtiny11/12 Datasheet; ComponentLink2URL: http://www.atmel.com/dyn/resources/prod_documents/doc1006.pdf; ComponentLink3Description: ATtiny11/12 Summary; ComponentLink3URL: http://www.atmel.com/dyn/resources/prod_documents/1006S.pdf; ComponentLink4Description: Atmel.com Home; ComponentLink4URL: http://www.atmel.com
footprint 8P3 (DIP, 8-Leads, Row Spacing 7.62mm, Pitch 2.54mm, Body 9.59x6.61mm)
pins: 1 PB5 (~{RESET}) (io), 2 PB3 (XTAL1) (io), 3 PB4 (XTAL2) (io), 4 GND (power), 5 PB0 (MOSI/AIN0) (io), 6 PB1 (MISO/INT0/AIN1) (io), 7 PB2 (SCK/T0) (io), 8 VCC (power)

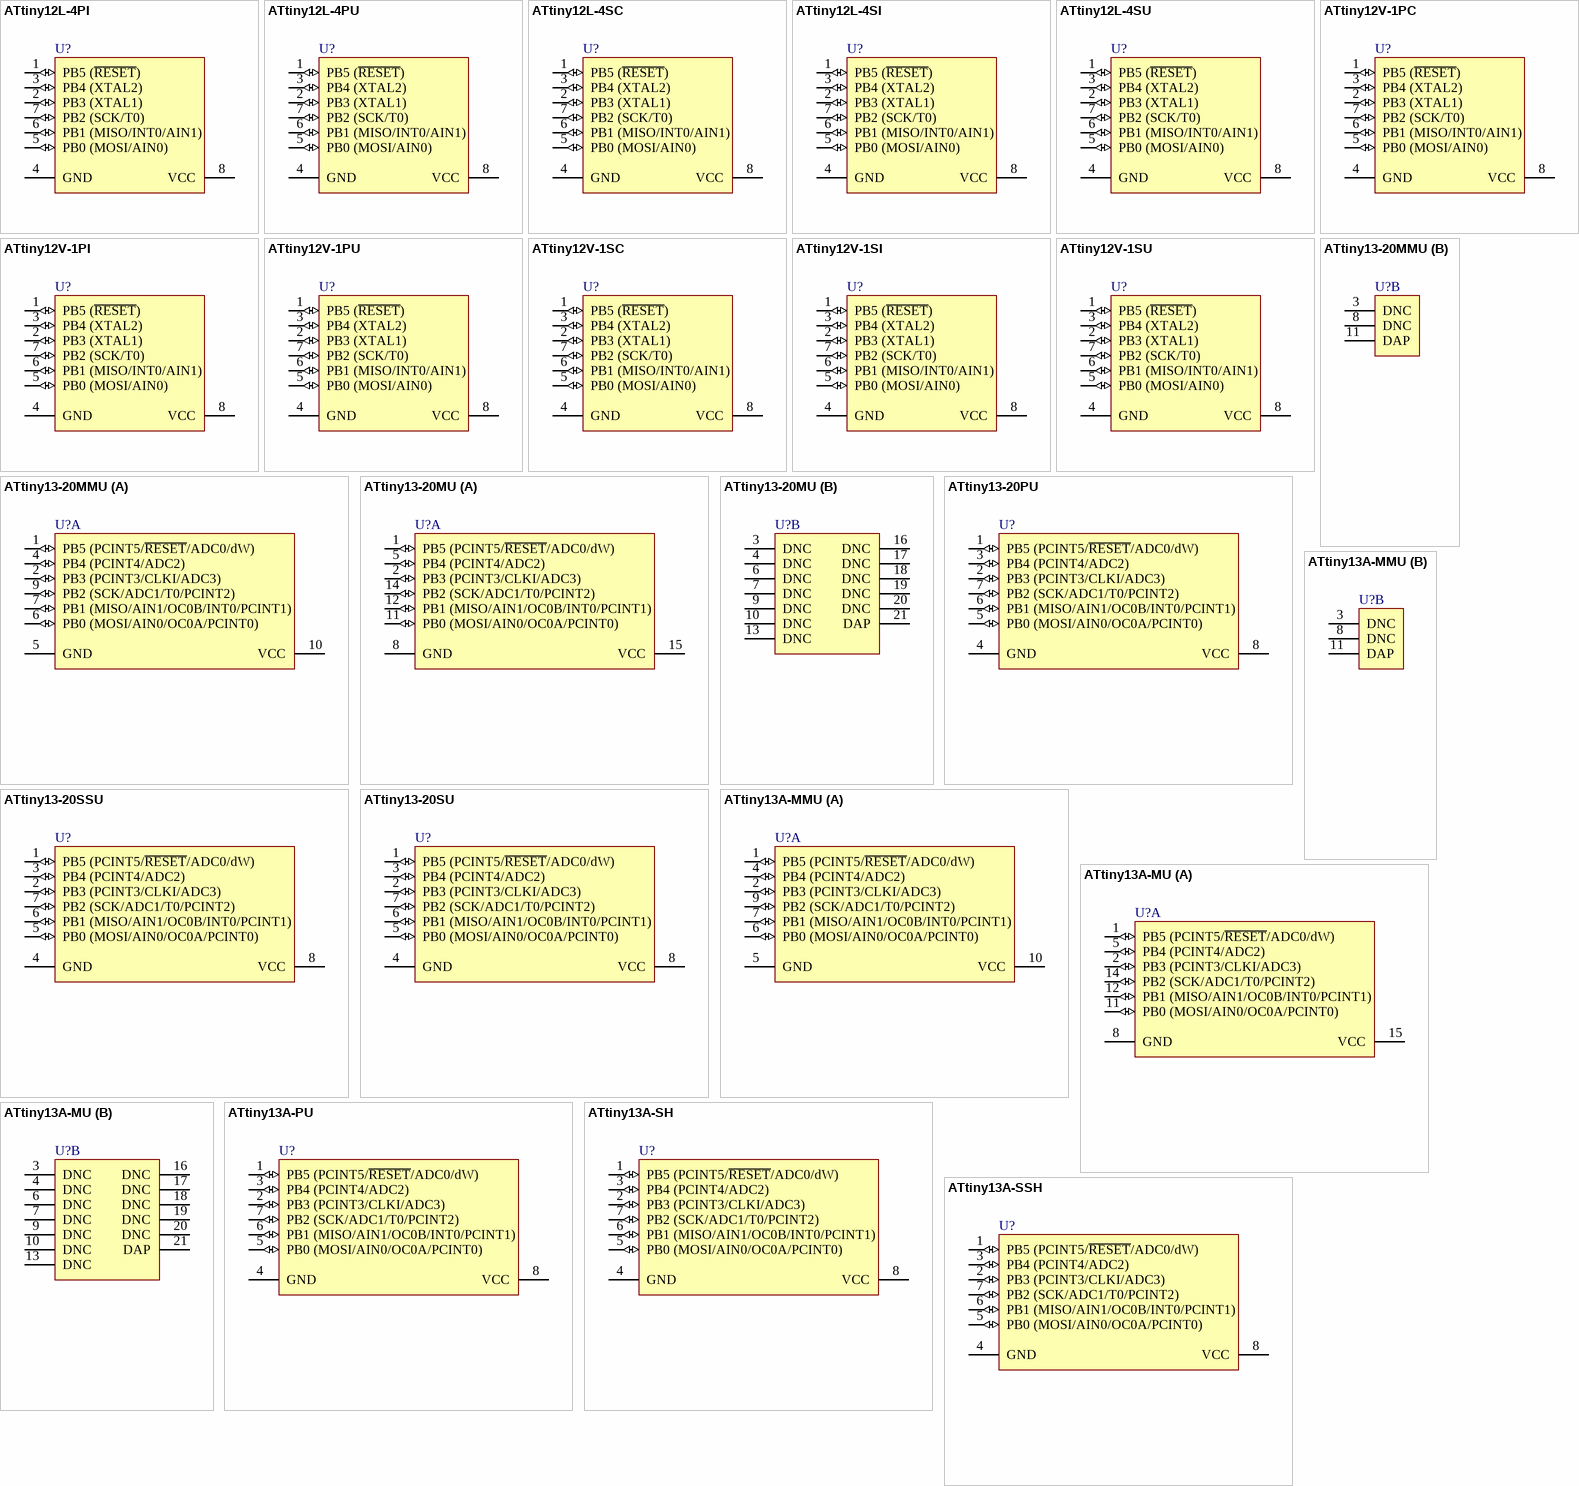
[diagram p1: symbols ATtiny12L-4PI to ATtiny13A-SSH]

## ATtiny12L-4PI
designator U?
8-bit AVR Microcontroller, 2.7-5.5V, 1KB Flash, 64 Bytes EEPROM, 8-pin PDIP, Industrial Grade (-40°C to 85°C); Published: 17-Sep-2003; DatasheetVersion: revF, Jun-2007; PackageVersion: revB, Jan-2002; PackageReference: 8P3; Publisher: Altium Limited; PackageDescription: 8-Lead, 0.300" Wide Body, Plastic Dual In-Line Package (PDIP); Supplier 1: Digi-Key; Supplier Part Number 1: ATTINY12L-4PI-ND; Supplier 2: Mouser; Supplier Part Number 2: 556-ATTINY12L-4PI; Code_JEDEC: MS-001-BA; ComponentLink1Description: Manufacturer Link; ComponentLink1URL: http://www.atmel.com/products/avr/default.asp?; ComponentLink2Description: ATtiny11/12 Datasheet; ComponentLink2URL: http://www.atmel.com/dyn/resources/prod_documents/doc1006.pdf; ComponentLink3Description: ATtiny11/12 Summary; ComponentLink3URL: http://www.atmel.com/dyn/resources/prod_documents/1006S.pdf; ComponentLink4Description: Atmel.com Home; ComponentLink4URL: http://www.atmel.com
footprint 8P3 (DIP, 8-Leads, Row Spacing 7.62mm, Pitch 2.54mm, Body 9.59x6.61mm)
pins: 1 PB5 (~{RESET}) (io), 2 PB3 (XTAL1) (io), 3 PB4 (XTAL2) (io), 4 GND (power), 5 PB0 (MOSI/AIN0) (io), 6 PB1 (MISO/INT0/AIN1) (io), 7 PB2 (SCK/T0) (io), 8 VCC (power)

## ATtiny12L-4PU
designator U?
8-bit AVR Microcontroller, 2.7-5.5V, 1KB Flash, 64 Bytes EEPROM, 8-pin PDIP, Industrial Grade (-40°C to 85°C), Pb-Free; Published: 1-Apr-2010; DatasheetVersion: revF, Jun-2007; PackageVersion: revB, Jan-2002; PackageReference: 8P3; Publisher: Altium Limited; PackageDescription: 8-Lead, 0.300" Wide Body, Plastic Dual In-Line Package (PDIP); Supplier 1: Mouser; Supplier Part Number 1: 556-ATTINY12L-4PU; Code_JEDEC: MS-001-BA; ComponentLink1Description: Manufacturer Link; ComponentLink1URL: http://www.atmel.com/products/avr/default.asp?; ComponentLink2Description: ATtiny11/12 Datasheet; ComponentLink2URL: http://www.atmel.com/dyn/resources/prod_documents/doc1006.pdf; ComponentLink3Description: ATtiny11/12 Summary; ComponentLink3URL: http://www.atmel.com/dyn/resources/prod_documents/1006S.pdf; ComponentLink4Description: Atmel.com Home; ComponentLink4URL: http://www.atmel.com
footprint 8P3 (DIP, 8-Leads, Row Spacing 7.62mm, Pitch 2.54mm, Body 9.59x6.61mm)
pins: 1 PB5 (~{RESET}) (io), 2 PB3 (XTAL1) (io), 3 PB4 (XTAL2) (io), 4 GND (power), 5 PB0 (MOSI/AIN0) (io), 6 PB1 (MISO/INT0/AIN1) (io), 7 PB2 (SCK/T0) (io), 8 VCC (power)

## ATtiny12L-4SC
designator U?
8-bit AVR Microcontroller, 2.7-5.5V, 1KB Flash, 64 Bytes EEPROM, 8-pin SOIC, Commercial Grade (0°C to 70°C); Published: 17-Sep-2003; DatasheetVersion: revF, Jun-2007; PackageVersion: revF, Apr-2008; PackageReference: 8S2; Publisher: Altium Limited; PackageDescription: 8-Lead, 0.208" Body, Plastic Small Outline Package (EIAJ); Supplier 1: Digi-Key; Supplier Part Number 1: ATTINY12L-4SC-ND; Supplier 2: Mouser; Supplier Part Number 2: 556-ATTINY12L-4SC; ComponentLink1Description: Manufacturer Link; ComponentLink1URL: http://www.atmel.com/products/avr/default.asp?; ComponentLink2Description: ATtiny11/12 Datasheet; ComponentLink2URL: http://www.atmel.com/dyn/resources/prod_documents/doc1006.pdf; ComponentLink3Description: ATtiny11/12 Summary; ComponentLink3URL: http://www.atmel.com/dyn/resources/prod_documents/1006S.pdf; ComponentLink4Description: Atmel.com Home; ComponentLink4URL: http://www.atmel.com
footprint 8S2_N (SOP, 8-Leads, Body 5.3x5.3mm, Pitch 1.27mm, IPC Medium Density)
footprint 8S2_L (SOP, 8-Leads, Body 5.3x5.3mm, Pitch 1.27mm, IPC High Density)
footprint 8S2_M (SOP, 8-Leads, Body 5.3x5.3mm, Pitch 1.27mm, IPC Low Density)
pins: 1 PB5 (~{RESET}) (io), 2 PB3 (XTAL1) (io), 3 PB4 (XTAL2) (io), 4 GND (power), 5 PB0 (MOSI/AIN0) (io), 6 PB1 (MISO/INT0/AIN1) (io), 7 PB2 (SCK/T0) (io), 8 VCC (power)

## ATtiny12L-4SI
designator U?
8-bit AVR Microcontroller, 2.7-5.5V, 1KB Flash, 64 Bytes EEPROM, 8-pin SOIC, Industrial Grade (-40°C to 85°C); Published: 17-Sep-2003; DatasheetVersion: revF, Jun-2007; PackageVersion: revF, Apr-2008; PackageReference: 8S2; Publisher: Altium Limited; PackageDescription: 8-Lead, 0.208" Body, Plastic Small Outline Package (EIAJ); Supplier 1: Digi-Key; Supplier Part Number 1: ATTINY12L-4SI-ND; Supplier 2: Mouser; Supplier Part Number 2: 556-ATTINY12L4SI; ComponentLink1Description: Manufacturer Link; ComponentLink1URL: http://www.atmel.com/products/avr/default.asp?; ComponentLink2Description: ATtiny11/12 Datasheet; ComponentLink2URL: http://www.atmel.com/dyn/resources/prod_documents/doc1006.pdf; ComponentLink3Description: ATtiny11/12 Summary; ComponentLink3URL: http://www.atmel.com/dyn/resources/prod_documents/1006S.pdf; ComponentLink4Description: Atmel.com Home; ComponentLink4URL: http://www.atmel.com
footprint 8S2_N (SOP, 8-Leads, Body 5.3x5.3mm, Pitch 1.27mm, IPC Medium Density)
footprint 8S2_L (SOP, 8-Leads, Body 5.3x5.3mm, Pitch 1.27mm, IPC High Density)
footprint 8S2_M (SOP, 8-Leads, Body 5.3x5.3mm, Pitch 1.27mm, IPC Low Density)
pins: 1 PB5 (~{RESET}) (io), 2 PB3 (XTAL1) (io), 3 PB4 (XTAL2) (io), 4 GND (power), 5 PB0 (MOSI/AIN0) (io), 6 PB1 (MISO/INT0/AIN1) (io), 7 PB2 (SCK/T0) (io), 8 VCC (power)

## ATtiny12L-4SU
designator U?
8-bit AVR Microcontroller, 2.7-5.5V, 1KB Flash, 64 Bytes EEPROM, 8-pin SOIC, Industrial Grade (-40°C to 85°C), Pb-Free; Published: 1-Apr-2010; DatasheetVersion: revF, Jun-2007; PackageVersion: revF, Apr-2008; PackageReference: 8S2; Publisher: Altium Limited; PackageDescription: 8-Lead, 0.208" Body, Plastic Small Outline Package (EIAJ); Supplier 1: Mouser; Supplier Part Number 1: 556-ATTINY12L-4SU; ComponentLink1Description: Manufacturer Link; ComponentLink1URL: http://www.atmel.com/products/avr/default.asp?; ComponentLink2Description: ATtiny11/12 Datasheet; ComponentLink2URL: http://www.atmel.com/dyn/resources/prod_documents/doc1006.pdf; ComponentLink3Description: ATtiny11/12 Summary; ComponentLink3URL: http://www.atmel.com/dyn/resources/prod_documents/1006S.pdf; ComponentLink4Description: Atmel.com Home; ComponentLink4URL: http://www.atmel.com
footprint 8S2_N (SOP, 8-Leads, Body 5.3x5.3mm, Pitch 1.27mm, IPC Medium Density)
footprint 8S2_L (SOP, 8-Leads, Body 5.3x5.3mm, Pitch 1.27mm, IPC High Density)
footprint 8S2_M (SOP, 8-Leads, Body 5.3x5.3mm, Pitch 1.27mm, IPC Low Density)
pins: 1 PB5 (~{RESET}) (io), 2 PB3 (XTAL1) (io), 3 PB4 (XTAL2) (io), 4 GND (power), 5 PB0 (MOSI/AIN0) (io), 6 PB1 (MISO/INT0/AIN1) (io), 7 PB2 (SCK/T0) (io), 8 VCC (power)

## ATtiny12V-1PC
designator U?
8-bit AVR Microcontroller, 1.8-5.5V, 1KB Flash, 64 Bytes EEPROM, 8-pin PDIP, Commercial Grade (0°C to 70°C); Published: 17-Sep-2003; DatasheetVersion: revF, Jun-2007; PackageVersion: revB, Jan-2002; PackageReference: 8P3; Publisher: Altium Limited; PackageDescription: 8-Lead, 0.300" Wide Body, Plastic Dual In-Line Package (PDIP); Supplier 1: Digi-Key; Supplier Part Number 1: ATTINY12V-1PC-ND; Supplier 2: Mouser; Supplier Part Number 2: 556-ATTINY12V-1PC; Code_JEDEC: MS-001-BA; ComponentLink1Description: Manufacturer Link; ComponentLink1URL: http://www.atmel.com/products/avr/default.asp?; ComponentLink2Description: ATtiny11/12 Datasheet; ComponentLink2URL: http://www.atmel.com/dyn/resources/prod_documents/doc1006.pdf; ComponentLink3Description: ATtiny11/12 Summary; ComponentLink3URL: http://www.atmel.com/dyn/resources/prod_documents/1006S.pdf; ComponentLink4Description: Atmel.com Home; ComponentLink4URL: http://www.atmel.com
footprint 8P3 (DIP, 8-Leads, Row Spacing 7.62mm, Pitch 2.54mm, Body 9.59x6.61mm)
pins: 1 PB5 (~{RESET}) (io), 2 PB3 (XTAL1) (io), 3 PB4 (XTAL2) (io), 4 GND (power), 5 PB0 (MOSI/AIN0) (io), 6 PB1 (MISO/INT0/AIN1) (io), 7 PB2 (SCK/T0) (io), 8 VCC (power)